# EAGLE library part LTC3545-1 (library PowerProducts)
Triple 800mA Synchronous Step-Down Regulator - 2.25MHz
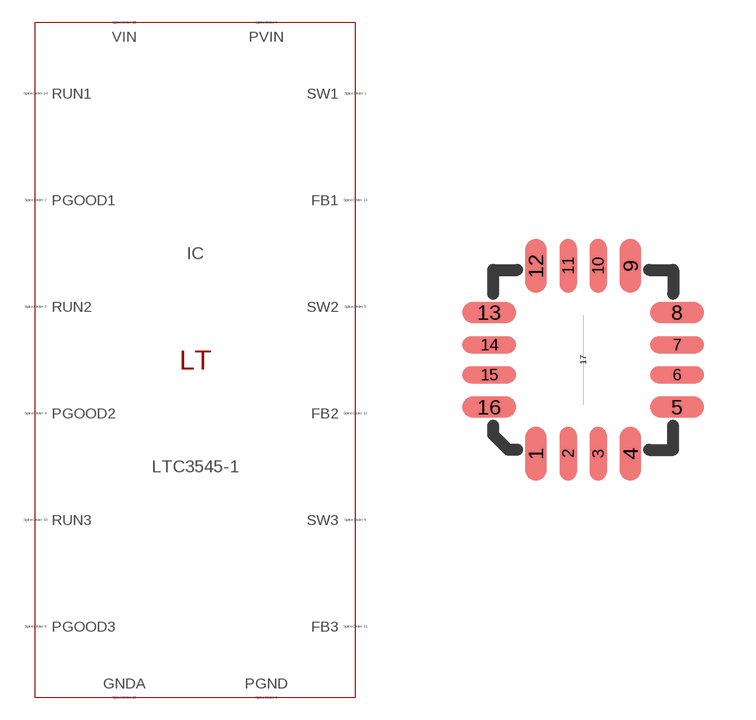
[diagram p239: symbol with the pads of QFN16(UD); footprint QFN16(UD)]

Designator prefix IC

## LTC3545-1 (SPICEMODEL: LTC3545-1.sub; SPICEPREFIX: X; VALUE2: LTC3545-1)  [QFN16(UD)]
1  SW1  pas
2  PGOOD1  pas
3  RUN2  pas
4  PGOOD2  pas
5  SW2  pas
6  PGND  pas
7  PVIN  pas
8  SW3  pas
9  PGOOD3  pas
10  RUN3  pas
11  FB3  pas
12  FB2  pas
13  FB1  pas
14  RUN1  pas
15  VIN  pas
16  GNDA  pas
17  GNDA  pas

## Footprint QFN16(UD) (pad centres in mm)
Package generated from: QFN16(UD).asc (!PADS-POWERPCB-V9.3-BASIC! DESIGN DATABASE ASCII FILE 1.0) with :import-pads-powerpcb-v5.ulp Version 1.0.1 at 04.10.2012 14:11:23
smd 0.54 x 1.35: 1 -1.185,-2.348; 4 1.185,-2.348; 9 1.185,2.348; 12 -1.185,2.348
smd 0.42 x 1.35: 2 -0.375,-2.348; 3 0.375,-2.348; 10 0.375,2.348; 11 -0.375,2.348
smd 1.35 x 0.54: 5 2.348,-1.185; 8 2.348,1.185; 13 -2.348,1.185; 16 -2.348,-1.185
smd 1.35 x 0.42: 6 2.348,-0.375; 7 2.348,0.375; 14 -2.348,0.375; 15 -2.348,-0.375
smd 0 x 2.25: 17 0,0